# Altium schematic symbol library CAP_Tantalum.SchLib: 1 symbol
Pins are listed as number, name and electrical type; pins without a type are passive.

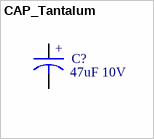
[diagram p0: symbol CAP_Tantalum]

## CAP_Tantalum
designator C?, comment 47uF 10V
Part Field 1: Capacitor; Part Field 2: Tantalum, 10V, 10%; Part Field 3: 3528-21; Part Field 4: AVX; Part Field 5: TPSB476K010R0650 or equiv.; Part Field 6: 222-1201
footprint 3216
footprint TE-D
footprint TE-Y
footprint TEH-C
footprint TEH-D
footprint 3528 tantalum
pins: 1, 2
2 alternate drawings of the same symbol
text: +